# Altium schematic symbol library Art.SchLib: 1 symbol
Pins are listed as number, name and electrical type; pins without a type are passive.

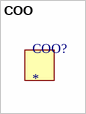
[diagram p0: symbol COO]

## COO
designator COO?  (graphical)